# Altium footprint library Optocoupleur.PcbLib: 1 footprints
Each footprint in its own frame and in the unit in brackets; x right, y up, seen from the top. Pads: shape width x height; smd on the part's side, far side on the other; paste and mask are expansions set on the pad; w line width, h text height; cw(c..) or ccw(c..) is an arc to the next point about the centre after c.
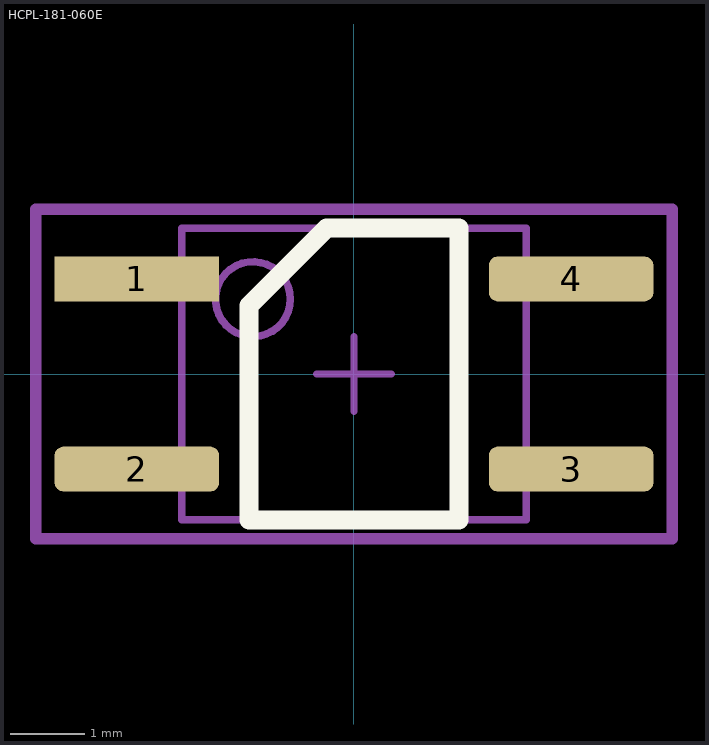
[diagram p0: the footprint, top view; thin cyan lines are the x and y axes]

## HCPL-181-060E [mm]
height 2.4
pads (4):
  rect 2.2x0.6 smd: 1(-2.9,1.27)
  rrect40% 2.2x0.6 smd: 2(-2.9,-1.27) 3(2.9,-1.27) 4(2.9,1.27)
Top Overlay:
  lines w0.254: -1.4,-1.95 -1.4,0.915 -0.365,1.95 1.4,1.95 1.4,-1.95 -1.4,-1.95
Mechanical 13:
  circle w0.1: c-1.35,1 r0.5
  lines w0.1: -2.3,-1.95 2.3,-1.95 2.3,1.95 -2.3,1.95 -2.3,-1.95
Mechanical 15:
  lines w0.1: -0.5,0 0.5,0 ; 0,-0.5 0,0.5
  lines w0.15: -4.25,-2.2 4.25,-2.2 4.25,2.2 -4.25,2.2 -4.25,-2.2
Mechanical 17 (Mech17):
  text ".Designator" at -0.4,-0.2 h1.5
3D body: height 2.4, standoff 0.2, extent -2.3,-1.95 2.3,1.95